# EAGLE library part ADM4850 (library HyTechDevices)
Analog Device RS-485/RS-422 Transceivers Datasheet <https://www.analog.com/media/en/technical-documentation/data-sheets/ADM4850_4851_4852_4853_4854_4855_4856_4857.pdf>
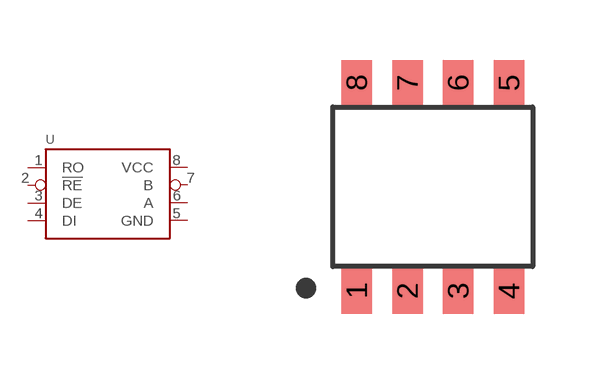
[diagram p73: symbol with the pads of SOIC-08(NARROW,0.15"); footprint SOIC-08(NARROW,0.15")]

Designator prefix U

## ADM4850 (DKPN: 505-ADM4850ARZ-REEL7CT-ND; MANUFACTURER: Analog Devices Inc.; MOPN: 584-ADM4850ARZ; MPN: ADM4850ARZ-REEL7)  [SOIC-08(NARROW,0.15")]
1  RO
2  !RE
3  DE
4  DI
5  GND  pwr
6  A
7  B
8  VCC  pwr

## Footprint SOIC-08(NARROW,0.15") (pad centres in mm)
SOIC-8 Datasheet <https://www.analog.com/media/en/package-pcb-resources/package/pkg_pdf/ltc-legacy-soic/05081610_G_SO8.pdf>
smd 0.762 x 1.143: 1 -1.905,-2.603; 2 -0.635,-2.603; 3 0.635,-2.603; 4 1.905,-2.603; 5 1.905,2.603; 6 0.635,2.603; 7 -0.635,2.603; 8 -1.905,2.603